# EAGLE library part TXB0102DCUT (library RoboJackets-ICs)
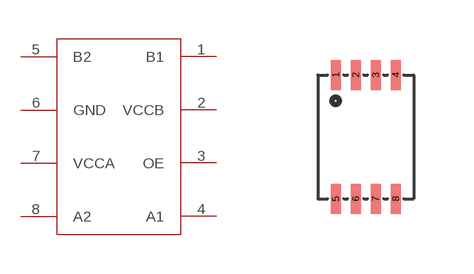
[diagram p28: symbol with the pads of S-PDSO-G8; footprint S-PDSO-G8]

Designator prefix -

## TXB0102DCUT  [S-PDSO-G8]
1  B1
2  VCCB
3  OE
4  A1
5  B2
6  GND
7  VCCA
8  A2

## Footprint S-PDSO-G8 (pad centres in mm)
smd 0.25 x 0.75: 1 -1,2; 2 -0.5,2; 3 0,2; 4 0.5,2; 5 -1,-1.1; 6 -0.5,-1.1; 7 0,-1.1; 8 0.5,-1.1